# EAGLE library part SN741G74 (library wheat)
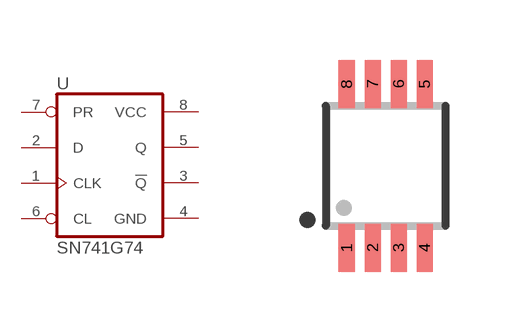
[diagram p168: symbol with the pads of MSOP8; footprint MSOP8]

Designator prefix U

## SN741G74  [MSOP8]
1  CLK  in
2  D  in
3  !Q  out
4  GND
5  Q  out
6  CL  in
7  PR  in
8  VCC

## Footprint MSOP8 (pad centres in mm)
MSOP8
smd 0.4 x 1.2: 1 0.295,-2.05; 2 0.945,-2.05; 3 1.595,-2.05; 4 2.245,-2.05; 5 2.245,2.05; 6 1.595,2.05; 7 0.945,2.05; 8 0.295,2.05